# Altium schematic symbol library Schlib1.SchLib: 25 symbols
Pins are listed as number, name and electrical type; pins without a type are passive.

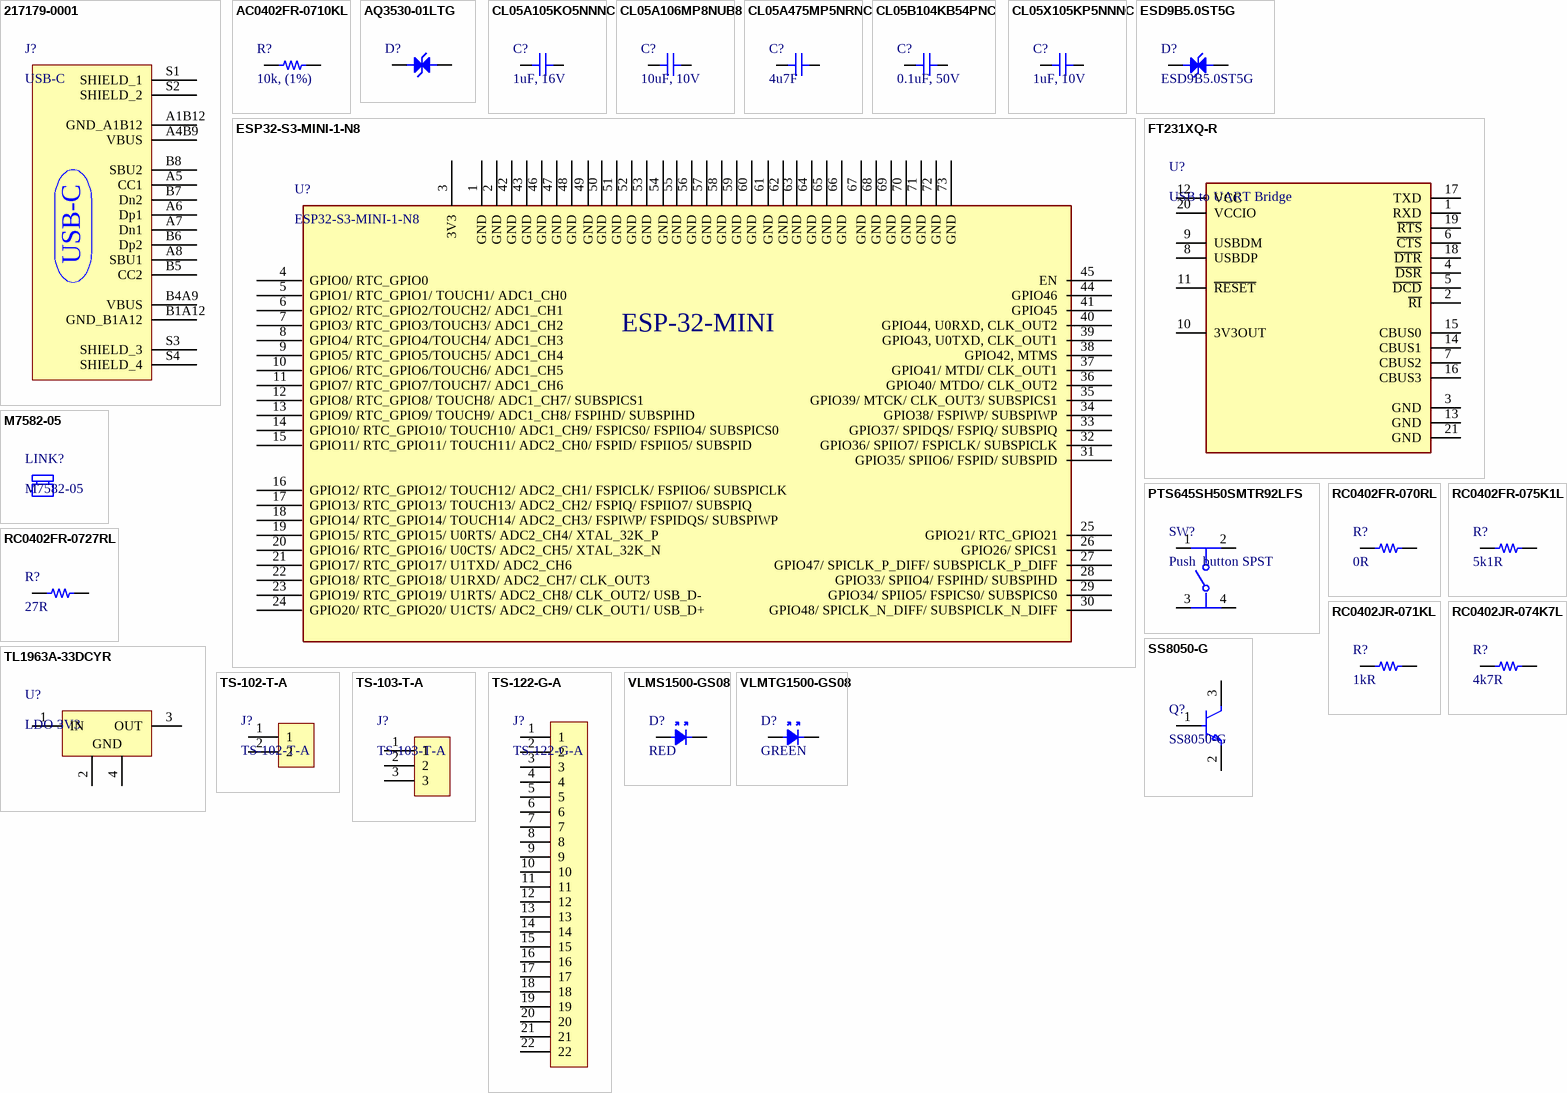
[diagram p0: symbols 217179-0001 to VLMTG1500-GS08]

## 217179-0001
designator J?, comment USB-C
CONN RCP USB2.0 TYP C 24P SMD RA; Manufacturer: Molex; Manufacturer Part Number: 217179-0001; Current Rating: 1.25A; Gender: Receptacle; Number of Contacts: 16; Voltage Rating: 30V; Supplier: Digikey; Supplier Part Number: 900-2171790001CT-ND; RoHS: No; Category: Connectors; Stock: 2736; Pricing: 1=0.79, 10=0.645, 25=0.5948, 50=0.5594, 100=0.5259, 250=0.48484, 500=0.45592 (USD); Contact Material: Nickel,Gold; Min Operating Temperature: -40°C; Max Operating Temperature: 85°C; USB Standard: USB 2.0; Height: 3.36mm; LCSC Part number: C2894899
footprint FP-2171790001-MFG
pins: A1B12 GND_A1B12, A4B9 VBUS, A5 CC1, A6 Dp1, A7 Dn1, A8 SBU1, B1A12 GND_B1A12, B4A9 VBUS, B5 CC2, B6 Dp2, B7 Dn2, B8 SBU2, S1 SHIELD_1, S2 SHIELD_2, S3 SHIELD_3, S4 SHIELD_4

## AC0402FR-0710KL
designator R?, comment 10k, (1%)
SMD Chip Resistor, 10 kOhm, ï¿½ 1%, 62.5 mW, 0402 [1005 Metric], Thick Film, General Purpose; Manufacturer: Yageo; Manufacturer Part Number: AC0402FR-0710KL; Value: 10kR; Power Rating: 62.5mW; Voltage Rating: 50V; Temperature Coefficient: 100ppm/°C; Max Power Dissipation: 63mW; Supplier: Digikey; Supplier Part Number: YAG3436CT-ND; RoHS: Yes; Category: Chip SMD Resistors; Stock: 801477; Pricing: 1=0.1, 10=0.009, 100=0.0082, 1000=0.00714, 2500=0.00612, 5000=0.0051 (USD); Case/Package: 0402; Case Code (Imperial): 0402; Case Code (Metric): 1005; Min Operating Temperature: -55°C; Max Operating Temperature: 155°C; Tolerance: 1%; Packaging: Tape and Reel; Termination: SMD/SMT; Number of Terminations: 2; Features: Moisture Resistant,Automotive AEC-Q200; Series: AC; Length: 0.039inch; Width: 0.02inch; Height: 0.015inch; Lead Free: Lead Free; RoHS Compliant: Yes; ComponentLink1URL: https://datasheet.ciiva.com/12656/pyu-ac-51-rohs-l-2-12656634.pdf?src-supplier=Mouser; ComponentLink1Description: https://datasheet.ciiva.com/12656/pyu-ac-51-rohs-l-2-12656634.pdf?src-supplier=Mouser; LCSC part number: C144807
footprint RESC1005X40X25NL05T10 (Chip Resistor, 2-Leads, Body 1.00x0.50mm, IPC Medium Density)
pins: 1, 2

## AQ3530-01LTG
designator D?  (value not drawn)
AQ3530-01LTG Series - 0.3pF 22kV unidirectional TVS diode, SOD523, RoHS; Manufacturer: Littelfuse; Leakage Current: 100nA; Number of Channels: 1NUMBER; Supplier: Digikey; Supplier Part Number: 18-AQ3530-01LTGCT-ND; Manufacturer Part Number: AQ3530-01LTG; RoHS: Yes; Category: TVS Diodes; Stock: 19074; Pricing: 1=0.4, 10=0.271, 100=0.128, 500=0.1205, 1000=0.113 (USD); Mounting Technology: 8Mount; LCSC Part number: C3706409
pins: 1, 2

## CL05A105KO5NNNC
designator C?, comment 1uF, 16V
16V 1uF X5R ±10% 0402 Multilayer Ceramic Capacitors MLCC - SMD/SMT ROHS; Manufacturer: Samsung; Manufacturer Part Number: CL05A105KO5NNNC; Material: 4241ConductorMaterial; Supplier: Digikey; Supplier Part Number: 1276-1067-1-ND; RoHS: Yes; Category: Ceramic Capacitors; Stock: 1549627; Pricing: 1=0.1, 10=0.027, 100=0.0163, 1000=0.01076, 2500=0.00932, 5000=0.00843 (USD); Mounting Technology: Surface Mount; Case/Package: 0402; Case Code (Metric): 1005; Case Code (Imperial): 0402; Min Operating Temperature: -55°C; Max Operating Temperature: 85°C; Packaging: Tape and Reel; Package Quantity: 1; Voltage Rating: 16V; Series: CL; Value: 1uF; Tolerance: 10%; Dielectric: X5R; Voltage: 16V; Construction: Flat; Voltage Rating (DC): 16V; Length: 1mm; Width: 0.02inch; Height: 0.5mm; Thickness: 0.022inch; Depth: 0.5mm; Radiation Hardening: No; RoHS Compliant: Yes; ComponentLink1URL: https://datasheet.ciiva.com/16207/cl05a105ko5nnnc-16207571.pdf?src-supplier=Future+Electronics; ComponentLink1Description: https://datasheet.ciiva.com/16207/cl05a105ko5nnnc-16207571.pdf?src-supplier=Future+Electronics; ComponentLink2URL: https://datasheet.ciiva.com/15195/getdatasheetpartid-355272-15195629.pdf?src-supplier=Verical; ComponentLink2Description: https://datasheet.ciiva.com/15195/getdatasheetpartid-355272-15195629.pdf?src-supplier=Verical; LCSC part number: C29266
footprint FP-CL599-IPC_B
pins: 1, 2

## CL05A106MP8NUB8
designator C?, comment 10uF, 10V
Multilayer Ceramic Capacitor, 10 uF, 10 V, ± 20%, X5R, 0402 [1005 Metric]; Manufacturer: Samsung; Manufacturer Part Number: CL05A106MP8NUB8; Material: 4241ConductorMaterial; Supplier: Digikey; Supplier Part Number: 1276-6830-1-ND; RoHS: Yes; Category: Ceramic Capacitors; Stock: 179131; Pricing: 1=0.31, 10=0.188, 100=0.1251, 1000=0.09037, 2500=0.08106 (USD); Mounting Technology: Surface Mount; Case/Package: 0402; Case Code (Metric): 1005; Case Code (Imperial): 0402; Min Operating Temperature: -55°C; Max Operating Temperature: 85°C; Packaging: Cut Tape; Value: 10uF; Voltage Rating: 10V; Tolerance: 20%; Series: CL; Length: 0.039inch; Width: 0.02inch; Height: 550um; Thickness: 0.035inch; RoHS Compliant: Yes; ComponentLink1URL: http://www.samsungsem.com/kr/support/product-search/mlcc/CL05A106MP8NUB8.jsp?src-supplier=Digikey; ComponentLink1Description: http://www.samsungsem.com/kr/support/product-search/mlcc/CL05A106MP8NUB8.jsp?src-supplier=Digikey; ComponentLink2URL: https://datasheet.octopart.com/CL05A106MP8NUB8-Samsung-Electro-Mechanics-datasheet-136460857.pdf?src-supplier=Future+Electronics; ComponentLink2Description: https://datasheet.octopart.com/CL05A106MP8NUB8-Samsung-Electro-Mechanics-datasheet-136460857.pdf?src-supplier=Future+Electronics; LCSC Part number: CL05A106MP8NUB8
footprint FP-CL599-IPC_B
pins: 1, 2

## CL05A475MP5NRNC
designator C?, comment 4u7F
Multilayer Ceramic Capacitor, 4.7 uF, 10 V, ï¿½ 20%, X5R, 0402 [1005 Metric]; Manufacturer: Samsung; Manufacturer Part Number: CL05A475MP5NRNC; Material: 4241ConductorMaterial; Value: 4.7uF; Voltage Rating: 10V; Supplier: Digikey; Supplier Part Number: 1276-1482-1-ND; RoHS: Yes; Category: Ceramic Capacitors; Stock: 1513638; Pricing: 1=0.1, 10=0.04, 100=0.0245, 1000=0.01648, 2500=0.01439, 5000=0.01308 (USD); Mounting Technology: Surface Mount; Case/Package: 0402; Case Code (Metric): 1005; Case Code (Imperial): 0402; Min Operating Temperature: -55°C; Max Operating Temperature: 85°C; Packaging: Cut Tape; Tolerance: 20%; Dielectric: X5R; Series: CL; Height: 550um; Lead Free: Lead Free; RoHS Compliant: Yes; ComponentLink1URL: https://datasheet.ciiva.com/25786/cl05a475mp5nrnc-25786963.pdf?src-supplier=Digikey; ComponentLink1Description: https://datasheet.ciiva.com/25786/cl05a475mp5nrnc-25786963.pdf?src-supplier=Digikey; ComponentLink2URL: https://datasheet.ciiva.com/16437/cl05b104kq5nnnc-16437353.pdf?src-supplier=Future+Electronics; ComponentLink2Description: https://datasheet.ciiva.com/16437/cl05b104kq5nnnc-16437353.pdf?src-supplier=Future+Electronics; LCSC Part number: C23733
footprint FP-CL599-IPC_B
pins: 1, 2

## CL05B104KB54PNC
designator C?, comment 0.1uF, 50V
50V 100nF X7R ±10% 0402 Multilayer Ceramic Capacitors MLCC - SMD/SMT ROHS; Manufacturer: Samsung; Manufacturer Part Number: CL05B104KB54PNC; Material: 4241ConductorMaterial; Supplier: Digikey; Supplier Part Number: 1276-CL05B104KB54PNCCT-ND; RoHS: Yes; Category: Ceramic Capacitors; Stock: 1445745; Pricing: 1=0.1, 10=0.03, 100=0.018, 1000=0.01195, 2500=0.01037, 5000=0.00939 (USD); Case/Package: 343Case; Min Operating Temperature: -55°C; Max Operating Temperature: 125°C; Tolerance: 10%; Voltage Rating: 50V; Value: 100nF; Height: 550um; RoHS Compliant: Yes; LCSC part number: C307331
footprint FP-CL599-IPC_B
pins: 1, 2

## CL05X105KP5NNNC
designator C?, comment 1uF, 10V
10V 1uF X6S ±10% 0402 Multilayer Ceramic Capacitors MLCC - SMD/SMT ROHS; Manufacturer: Samsung; Manufacturer Part Number: CL05X105KP5NNNC; Supplier: Digikey; Supplier Part Number: 1276-6805-1-ND; RoHS: Yes; Category: Ceramic Capacitors; Stock: 2140064; Pricing: 1=0.1, 10=0.042, 50=0.0284, 100=0.0244, 500=0.0175, 1000=0.01536, 2500=0.0131, 5000=0.01173 (USD); ComponentLink1URL: http://www.samsungsem.com/global/front/downloadcms.do?path=%2F%2Fglobal%2F%2Fsupport%2F%2Flibrary%2F%2Fproduct-catalog%2F%2F__icsFiles%2F%2Fafieldfile%2F%2F2014%2F%2F11%2F%2F13&fileName=MLCC.pdf&src-supplier=Avnet; ComponentLink1Description: http://www.samsungsem.com/global/front/downloadcms.do?path=%2F%2Fglobal%2F%2Fsupport%2F%2Flibrary%2F%2Fproduct-catalog%2F%2F__icsFiles%2F%2Fafieldfile%2F%2F2014%2F%2F11%2F%2F13&fileName=MLCC.pdf&src-supplier=Avnet; ComponentLink2URL: https://datasheet.octopart.com/CL05X105KP5NNNC-Samsung-Electro-Mechanics-datasheet-115064993.pdf?src-supplier=Future+Electronics; ComponentLink2Description: https://datasheet.octopart.com/CL05X105KP5NNNC-Samsung-Electro-Mechanics-datasheet-115064993.pdf?src-supplier=Future+Electronics; ComponentLink3URL: http://www.samsungsem.com/kr/support/library/product-catalog/mlcc.jsp?src-supplier=Digikey; ComponentLink3Description: http://www.samsungsem.com/kr/support/library/product-catalog/mlcc.jsp?src-supplier=Digikey; ComponentLink4URL: http://www.samsungsem.com/kr/support/product-search/mlcc/CL05X105KP5NNNC.jsp?src-supplier=Digikey; ComponentLink4Description: http://www.samsungsem.com/kr/support/product-search/mlcc/CL05X105KP5NNNC.jsp?src-supplier=Digikey; LCSC Part number: C2991800
footprint FP-CL599-IPC_B
pins: 1, 2

## ESD9B5.0ST5G
designator D?
ESD Suppressor TVS Single Bi-Dir ±18kV@Air Gap/±18kV@Contact Disc 2-Pin SOD-923 T/R; Manufacturer: ON Semiconductor; Direction: Bidirectional; Number of Bidirectional Channels: 1; Reverse Standoff Voltage: 5V; Min Breakdown Voltage: 5.8V; Power Line Protection: No; Peak Pulse Current: 1A; Diode Type: ZENER; Value: 15pF; Clamping Voltage: 12.5V; Max Power Dissipation: 300mW; Leakage Current: 1uA; Test Current: 1mA; ESD Protection: Yes; Max Breakdown Voltage: 7.8V; Supplier: Digikey; Supplier Part Number: ESD9B5.0ST5GOSCT-ND; Manufacturer Part Number: ESD9B5.0ST5G; RoHS: Yes; Category: ESD and Circuit Protection ICs; Stock: 1217500; Pricing: 1=0.1, 10=0.071, 100=0.033, 500=0.031, 1000=0.029 (USD); Case/Package: SOD-923-2; Pins: 2; Min Operating Temperature: -55°C; Max Operating Temperature: 150°C; Packaging: Tape and Reel; Number of Lines: 1; Series: Automotive, AEC-Q101; Reverse Breakdown Voltage: 5.8V; Number of Channels: 1; Number of Elements: 1; Package Quantity: 1; Operating Supply Voltage: 5V; Max Surge Current: 1A; Breakdown Voltage: 5.8V; Polarity: Bidirectional; Termination: SMD/SMT; Working Voltage: 5V; Peak Pulse Power: 300mW; Max Reverse Leakage Current: 1uA; Clamping Voltage-Max: 12.5V; Length: 0.8mm; Width: 0.65mm; Height: 0.4mm; Depth: 0.6mm; Radiation Hardening: No; Lead Free: Lead Free; Halogen Free: Halogen Free; RoHS Compliant: Yes; Reach SVHC Compliant: No; ComponentLink1URL: https://datasheet.ciiva.com/1219/1596367-1219274.pdf?src-supplier=Newark; ComponentLink1Description: https://datasheet.ciiva.com/1219/1596367-1219274.pdf?src-supplier=Newark; LCSC Part Number: C316040
footprint ONSC-SOD-923-2-514AB-01_V (SOD, 2-Leads, Body 0.8x0.6mm)
pins: 1, 2

## ESP32-S3-MINI-1-N8
designator U?
SMD module, ESP32-S3FN8, 8 MB SPI flash, PCB antenna; Manufacturer: Espressif Systems; Supplier: Digikey; Supplier Part Number: 1965-ESP32-S3-MINI-1-N8CT-ND; Manufacturer Part Number: ESP32-S3-MINI-1-N8; RoHS: No; Category: LDO; Stock: 3722; Pricing: 1=3.1 (USD); ComponentLink1URL: https://datasheet.octopart.com/ESP32-S3-MINI-1-N8-Espressif-Systems-datasheet-165560562.pdf?src-supplier=TME; ComponentLink1Description: https://datasheet.octopart.com/ESP32-S3-MINI-1-N8-Espressif-Systems-datasheet-165560562.pdf?src-supplier=TME; LCSC Part number: C2913206
footprint XCVR_ESP32-S3-MINI-1-N8
pins: 1 GND, 2 GND, 3 3V3, 4 GPIO0/ RTC_GPIO0, 5 GPIO1/ RTC_GPIO1/ TOUCH1/ ADC1_CH0, 6 GPIO2/ RTC_GPIO2/TOUCH2/ ADC1_CH1, 7 GPIO3/ RTC_GPIO3/TOUCH3/ ADC1_CH2, 8 GPIO4/ RTC_GPIO4/TOUCH4/ ADC1_CH3, 9 GPIO5/ RTC_GPIO5/TOUCH5/ ADC1_CH4, 10 GPIO6/ RTC_GPIO6/TOUCH6/ ADC1_CH5, 11 GPIO7/ RTC_GPIO7/TOUCH7/ ADC1_CH6, 12 GPIO8/ RTC_GPIO8/ TOUCH8/ ADC1_CH7/ SUBSPICS1, 13 GPIO9/ RTC_GPIO9/ TOUCH9/ ADC1_CH8/ FSPIHD/ SUBSPIHD, 14 GPIO10/ RTC_GPIO10/ TOUCH10/ ADC1_CH9/ FSPICS0/ FSPIIO4/ SUBSPICS0, 15 GPIO11/ RTC_GPIO11/ TOUCH11/ ADC2_CH0/ FSPID/ FSPIIO5/ SUBSPID, 16 GPIO12/ RTC_GPIO12/ TOUCH12/ ADC2_CH1/ FSPICLK/ FSPIIO6/ SUBSPICLK, 17 GPIO13/ RTC_GPIO13/ TOUCH13/ ADC2_CH2/ FSPIQ/ FSPIIO7/ SUBSPIQ, 18 GPIO14/ RTC_GPIO14/ TOUCH14/ ADC2_CH3/ FSPIWP/ FSPIDQS/ SUBSPIWP, 19 GPIO15/ RTC_GPIO15/ U0RTS/ ADC2_CH4/ XTAL_32K_P, 20 GPIO16/ RTC_GPIO16/ U0CTS/ ADC2_CH5/ XTAL_32K_N, 21 GPIO17/ RTC_GPIO17/ U1TXD/ ADC2_CH6, 22 GPIO18/ RTC_GPIO18/ U1RXD/ ADC2_CH7/ CLK_OUT3, 23 GPIO19/ RTC_GPIO19/ U1RTS/ ADC2_CH8/ CLK_OUT2/ USB_D-, 24 GPIO20/ RTC_GPIO20/ U1CTS/ ADC2_CH9/ CLK_OUT1/ USB_D+, 25 GPIO21/ RTC_GPIO21, 26 GPIO26/ SPICS1, 27 GPIO47/ SPICLK_P_DIFF/ SUBSPICLK_P_DIFF, 28 GPIO33/ SPIIO4/ FSPIHD/ SUBSPIHD, 29 GPIO34/ SPIIO5/ FSPICS0/ SUBSPICS0, 30 GPIO48/ SPICLK_N_DIFF/ SUBSPICLK_N_DIFF, 31 GPIO35/ SPIIO6/ FSPID/ SUBSPID, 32 GPIO36/ SPIIO7/ FSPICLK/ SUBSPICLK, 33 GPIO37/ SPIDQS/ FSPIQ/ SUBSPIQ, 34 GPIO38/ FSPIWP/ SUBSPIWP, 35 GPIO39/ MTCK/ CLK_OUT3/ SUBSPICS1, 36 GPIO40/ MTDO/ CLK_OUT2, 37 GPIO41/ MTDI/ CLK_OUT1, 38 GPIO42, MTMS, 39 GPIO43, U0TXD, CLK_OUT1, 40 GPIO44, U0RXD, CLK_OUT2, 41 GPIO45, 42 GND, 43 GND, 44 GPIO46, 45 EN, 46 GND, 47 GND, 48 GND, 49 GND, 50 GND, 51 GND, 52 GND, 53 GND, 54 GND, 55 GND, 56 GND, 57 GND, 58 GND, 59 GND, 60 GND, 61 GND, 62 GND, 63 GND, 64 GND, 65 GND, 66 GND, 67 GND, 68 GND, 69 GND, 70 GND, 71 GND, 72 GND, 73 GND
text: ESP-32-MINI

## FT231XQ-R
designator U?, comment USB to UART Bridge
USB to Full Handshake UART Interface QFN20 Reel (not offered in your region); Manufacturer: FTDI; Manufacturer Part Number: FT231XQ-R; Supplier: Digikey; Supplier Part Number: 768-1128-1-ND; RoHS: Yes; Category: Interface ICs; Stock: 45518; Pricing: 1=2.34, 25=2.27, 100=2.2, 250=2, 500=1.82002, 1000=1.7625 (USD); Height: 800um; Lead Free: 5697LeadFree; ComponentLink1URL: https://datasheet.ciiva.com/4787/ds-ft231x-13571-4787570.pdf?src-supplier=Mouser; ComponentLink1Description: https://datasheet.ciiva.com/4787/ds-ft231x-13571-4787570.pdf?src-supplier=Mouser; ComponentLink2URL: https://datasheet.ciiva.com/30475/0900766b811020d3-30475405.pdf?src-supplier=Rs; ComponentLink2Description: https://datasheet.ciiva.com/30475/0900766b811020d3-30475405.pdf?src-supplier=Rs; ComponentLink3URL: https://datasheet.ciiva.com/1787/ds-ft231x-1787312.pdf?src-supplier=Digikey; ComponentLink3Description: https://datasheet.ciiva.com/1787/ds-ft231x-1787312.pdf?src-supplier=Digikey; ComponentLink4URL: https://datasheet.ciiva.com/1787/ft-x-series-1787313.pdf?src-supplier=Digikey; ComponentLink4Description: https://datasheet.ciiva.com/1787/ft-x-series-1787313.pdf?src-supplier=Digikey; ComponentLink5URL: https://datasheet.ciiva.com/1787/ft-x-series-1787314.pdf?src-supplier=Digikey; ComponentLink5Description: https://datasheet.ciiva.com/1787/ft-x-series-1787314.pdf?src-supplier=Digikey; LCSC Part number: C132159
footprint FP-QFN-20-IPC_B
pins: 1 RXD, 2 ~{RI}, 3 GND, 4 ~{DSR}, 5 ~{DCD}, 6 ~{CTS}, 7 CBUS2, 8 USBDP, 9 USBDM, 10 3V3OUT, 11 ~{RESET}, 12 VCC, 13 GND, 14 CBUS1, 15 CBUS0, 16 CBUS3, 17 TXD, 18 ~{DTR}, 19 ~{RTS}, 20 VCCIO, 21 GND

## M7582-05
designator LINK?  (mechanical)
2.54mm (0.1") Pitch Open Top Jumper Socket, single use, gold, Black; Manufacturer: Harwin; Max Current Rating: 1A; Contact Resistance: 20mR; Number of Positions: 2; Insulation Resistance: 5GR; Supplier: Digikey; Supplier Part Number: 952-2881-ND; Manufacturer Part Number: M7582-05; RoHS: Yes; Category: Headers and Wire Housings; Stock: 29899; Pricing: 1=0.15, 10=0.124, 25=0.114, 50=0.107, 100=0.1007, 250=0.0928, 500=0.08728, 1000=0.08207, 2500=0.07566 (USD); Contact Material: Bronze; Contact Plating: Gold; Color: Black; Material: Nickel; Plating: Gold; Housing Color: Black; Housing Material: PBT; Min Operating Temperature: -55°C; Max Operating Temperature: 105°C; Package Quantity: 5000; Packaging: Bulk; Series: M75; Number of Rows: 1; Contact Gender: Female; Current Rating: 1A; Number of Contacts: 2; Orientation: Straight; Length: 5mm; Height: 0.236inch; Depth: 2.4mm; Pitch: 2.54mm; Radiation Hardening: No; RoHS Compliant: Yes; Flammability Rating: UL94 V-0; ComponentLink1URL: https://datasheet.ciiva.com/15174/getdatasheetpartid-412516-15174987.pdf?src-supplier=Verical; ComponentLink1Description: https://datasheet.ciiva.com/15174/getdatasheetpartid-412516-15174987.pdf?src-supplier=Verical; LCSC Part number: C3715643

## PTS645SH50SMTR92LFS
designator SW?, comment Push  button SPST
6mm 5mm Round Button 50mA Standing paste 6mm SPST 200gf 12V SMD,6x6mm Tactile Switches ROHS; Manufacturer: ITT C&K; Manufacturer Part Number: PTS645SH50SMTR92LFS; Contact Resistance: 100mR; Number of Positions: 2NUMBER; Supplier: Digikey; Supplier Part Number: CKN9085CT-ND; RoHS: Yes; Category: Tactile Switches; Stock: 26399; Pricing: 1=0.4, 10=0.325, 25=0.2992, 100=0.2639, 250=0.24264, 500=0.22758 (USD); Contact Current Rating: 50mA; Lead Free: 5697LeadFree; ComponentLink1URL: https://datasheet.ciiva.com/29903/getdatasheetpartid-773702-29903807.pdf?src-supplier=Verical; ComponentLink1Description: https://datasheet.ciiva.com/29903/getdatasheetpartid-773702-29903807.pdf?src-supplier=Verical; ComponentLink2URL: https://datasheet.ciiva.com/14920/pts645-14920741.pdf?src-supplier=Digikey; ComponentLink2Description: https://datasheet.ciiva.com/14920/pts645-14920741.pdf?src-supplier=Digikey; ComponentLink3URL: https://datasheet.ciiva.com/22637/1707731-22637356.pdf?src-supplier=Element14; ComponentLink3Description: https://datasheet.ciiva.com/22637/1707731-22637356.pdf?src-supplier=Element14; LCSC Part number: C221869
footprint FP-PTS645SH50SMTR92LFS-MFG
pins: 1, 2, 3, 4

## RC0402FR-070RL
designator R?, comment 0R
62.5mW Thick Film Resistors 50V ±5% 0Ω 0402 Chip Resistor - Surface Mount ROHS; Manufacturer: Yageo; Manufacturer Part Number: RC0402FR-070RL; Tolerance: 1%; Temperature Coefficient: 200ppm/°C; Max Power Dissipation: 63mW; Supplier: Digikey; Supplier Part Number: 311-0.0LRCT-ND; RoHS: Yes; Category: Chip SMD Resistors; Stock: 1505938; Pricing: 1=0.1, 10=0.002 (USD); Mounting Technology: Surface Mount; Case/Package: 0402; Contact Plating: Tin,Matte; Case Code (Imperial): 0402; Case Code (Metric): 1005; Min Operating Temperature: -55°C; Max Operating Temperature: 155°C; Value: 0R; Power Rating: 62.5mW; Packaging: Tape and Reel; Voltage Rating: 50V; Termination: SMD/SMT; Features: Moisture Resistant; Series: RC; Number of Terminations: 2; Length: 1mm; Width: 0.5mm; Height: 0.35mm; Lead Free: 5697LeadFree; RoHS Compliant: Yes; LCSC Part number: C60485
footprint RESC1005X40X25NL05T10 (Chip Resistor, 2-Leads, Body 1.00x0.50mm, IPC Medium Density)
pins: 1, 2

## RC0402FR-075K1L
designator R?, comment 5k1R
RES 5.1K OHM 1% 1/16W 0402; Manufacturer: Yageo; Manufacturer Part Number: RC0402FR-075K1L; Power Rating: 63mW; Voltage Rating: 50V; Value: 5.1kR; Temperature Coefficient: 100ppm/°C; Parameter 1: C105872; Supplier: Digikey; Supplier Part Number: 311-5.10KLRCT-ND; RoHS: Yes; Category: Chip SMD Resistors; Stock: 229144; Pricing: 1=0.1, 10=0.008, 100=0.0066, 1000=0.0051, 2500=0.00459, 5000=0.00408 (USD); Case/Package: 0402; Case Code (Metric): 1005; Case Code (Imperial): 0402; Min Operating Temperature: -55°C; Max Operating Temperature: 155°C; Tolerance: 1%; Packaging: Tape and Reel; Package Quantity: 1; Resistor Type: Thick Film; Number of Terminations: 2; Termination: SMD/SMT; Max Power Dissipation: 63mW; Features: Moisture Resistant; Series: RC; Resistance Tolerance: 1%; Technology: THICK FILM; Voltage Rating (DC): 50V; Working Voltage: 50V; Construction: Rectangular; Length: 1mm; Width: 0.02inch; Height: 0.016inch; Depth: 0.5mm; RoHS Compliant: Yes; Reach SVHC Compliant: Unknown; Lead Free: 5697LeadFree; Military Standard: Not
footprint RESC1005X40X25NL05T10 (Chip Resistor, 2-Leads, Body 1.00x0.50mm, IPC Medium Density)
pins: 1, 2

## RC0402FR-0727RL
designator R?, comment 27R
62.5mW 27Ω 50V ±1% ±100ppm/℃ Thick Film Resistors 0402 Chip Resistor - Surface Mount ROHS; Manufacturer: Yageo; Manufacturer Part Number: RC0402FR-0727RL; Temperature Coefficient: 100ppm/°C; Max Power Dissipation: 63mW; Supplier: Digikey; Supplier Part Number: YAG3086CT-ND; RoHS: Yes; Category: Chip SMD Resistors; Stock: 352788; Pricing: 1=0.1, 10=0.007, 100=0.0056, 1000=0.00408, 2500=0.00357 (USD); Case/Package: 0402; Case Code (Imperial): 0402; Case Code (Metric): 1005; Weight: 2.3E-05oz; Min Operating Temperature: -55°C; Max Operating Temperature: 155°C; Value: 27R; Tolerance: 1%; Packaging: Tape and Reel; Power Rating: 62.5mW; Voltage Rating: 50V; Resistor Type: Thick Film; Termination: SMD/SMT; Number of Terminations: 2; Features: Moisture Resistant; Series: RC; Construction: Rectangular; Technology: THICK FILM; Resistance Tolerance: 1%; Voltage Rating (AC): 50V; Length: 1mm; Width: 0.5mm; Height: 0.016inch; Depth: 0.5mm; Military Standard: Not; Lead Free: Lead Free; RoHS Compliant: Yes; Reach SVHC Compliant: Unknown; ComponentLink1URL: https://datasheet.ciiva.com/11808/0900766b80c66297-11808450.pdf?src-supplier=Rs; ComponentLink1Description: https://datasheet.ciiva.com/11808/0900766b80c66297-11808450.pdf?src-supplier=Rs; ComponentLink2URL: https://datasheet.ciiva.com/17044/pyu-rc0402-51-rohs-l-6-17044345.pdf?src-supplier=Future+Electronics; ComponentLink2Description: https://datasheet.ciiva.com/17044/pyu-rc0402-51-rohs-l-6-17044345.pdf?src-supplier=Future+Electronics; ComponentLink3URL: https://datasheet.ciiva.com/7849/1018594-7849927.pdf?src-supplier=Element14; ComponentLink3Description: https://datasheet.ciiva.com/7849/1018594-7849927.pdf?src-supplier=Element14; ComponentLink4URL: https://datasheet.ciiva.com/7849/1018594-7849926.pdf?src-supplier=Element14; ComponentLink4Description: https://datasheet.ciiva.com/7849/1018594-7849926.pdf?src-supplier=Element14; LCSC Part number: C138021
footprint RESC1005X40X25NL05T10 (Chip Resistor, 2-Leads, Body 1.00x0.50mm, IPC Medium Density)
pins: 1, 2

## RC0402JR-071KL
designator R?, comment 1kR
RES 1K OHM 5% 1/16W 0402; Manufacturer: Yageo; Manufacturer Part Number: RC0402JR-071KL; Voltage Rating: 50V; Power Rating: 62.5mW; Temperature Coefficient: 100ppm/°C; Max Power Dissipation: 63mW; Supplier: Digikey; Supplier Part Number: 311-1.0KJRCT-ND; RoHS: Yes; Category: Chip SMD Resistors; Stock: 11901828; Pricing: 1=0.1, 10=0.008, 50=0.0072, 100=0.0061, 500=0.0056, 1000=0.0051, 5000=0.00408 (USD); Case/Package: 0402; Case Code (Imperial): 0402; Case Code (Metric): 1005; Min Operating Temperature: -55°C; Max Operating Temperature: 155°C; Packaging: Cut Tape; Termination: SMD/SMT; Series: RC; Voltage Rating (AC): 50V; Value: 1kR; Tolerance: 5%; Package Quantity: 1; Resistor Type: Thick Film; Number of Terminations: 2; Features: Moisture Resistant; Resistance Tolerance: 5%; Length: 0.039inch; Width: 0.02inch; Height: 0.016inch; Reach SVHC Compliant: No; Lead Free: 5697LeadFree; RoHS Compliant: Yes; LCSC Part Number: C105637
footprint RESC1005X40X25NL05T10 (Chip Resistor, 2-Leads, Body 1.00x0.50mm, IPC Medium Density)
pins: 1, 2

## RC0402JR-074K7L
designator R?, comment 4k7R
RES 4.7K OHM 5% 1/16W 0402; Manufacturer: Yageo; Manufacturer Part Number: RC0402JR-074K7L; Voltage Rating (AC): 50V; Value: 4.7kR; Power Rating: 62.5mW; Temperature Coefficient: 100ppm/°C; Max Power Dissipation: 63mW; Supplier: Digikey; Supplier Part Number: 311-4.7KJRCT-ND; RoHS: Yes; Category: Chip SMD Resistors; Stock: 17282127; Pricing: 1=0.1, 10=0.007, 50=0.0056, 100=0.0041, 500=0.00356, 1000=0.0025 (USD); Case/Package: 0402; Case Code (Imperial): 0402; Case Code (Metric): 1005; Min Operating Temperature: -55°C; Max Operating Temperature: 155°C; Voltage Rating: 50V; Tolerance: 5%; Packaging: Tape and Reel; Package Quantity: 1; Termination: SMD/SMT; Resistor Type: Thick Film; Number of Terminations: 2; Features: Moisture Resistant; Series: RC; Resistance Tolerance: 5%; Length: 0.039inch; Width: 0.02inch; Height: 0.016inch; Lead Free: Lead Free; Reach SVHC Compliant: No; RoHS Compliant: Yes; LCSC Part number: C105870
footprint RESC1005X40X25NL05T10 (Chip Resistor, 2-Leads, Body 1.00x0.50mm, IPC Medium Density)
pins: 1, 2

## SS8050-G
designator Q?
TRANS NPN 25V 1.5A SOT-23-3; Manufacturer: Comchip; Max Power Dissipation: 300mW; Transition Frequency: 100MHz; Collector-emitter Voltage-Max: 400mV; Collector Base Voltage (VCBO): 40V; Collector Emitter Saturation Voltage: 500mV; Emitter Base Voltage (VEBO): 5V; hFE Min: 200; Number of Elements: 1; Supplier: Digikey; Supplier Part Number: 641-1790-1-ND; Manufacturer Part Number: SS8050-G; RoHS: Yes; Category: Transistors; Stock: 104442; Pricing: 1=0.24, 10=0.148, 100=0.0921, 500=0.06754, 1000=0.05958 (USD); Mounting Technology: Surface Mount; Case/Package: TO-236-3; Max Operating Temperature: 150°C; Packaging: Cut Tape; Max Collector Current: 1.5A; Collector Emitter Breakdown Voltage: 25V; Max Breakdown Voltage: 25V; Series: -; Power Dissipation: 300mW; Height: 1.15mm; RoHS Compliant: Yes; ComponentLink1URL: http://www.comchiptech.com/admin/files/product/SS8050-G RevA181526.pdf?src-supplier=Digikey; ComponentLink1Description: http://www.comchiptech.com/admin/files/product/SS8050-G RevA181526.pdf?src-supplier=Digikey; LCSC Part number: C164886
footprint FP-SS8050-G-IPC_B
pins: 1 B, 2 E, 3 C

## TL1963A-33DCYR
designator U?, comment LDO 3V3
IC REG LINEAR 3.3V 1.5A SOT223-4; Manufacturer: Texas Instruments; Manufacturer Part Number: TL1963A-33DCYR; Supplier: Digikey; Supplier Part Number: 296-24897-1-ND; RoHS: Yes; Category: Voltage Regulators - Linear; Stock: 6096; Pricing: 1=2.77, 10=2.069, 25=1.8936, 100=1.7, 250=1.60772, 500=1.55212, 1000=1.50634 (USD); Thickness: 1.6mm; Lead Free: 5697LeadFree; ComponentLink1URL: https://datasheet.ciiva.com/2046/-2046068.pdf?src-supplier=Digikey; ComponentLink1Description: https://datasheet.ciiva.com/2046/-2046068.pdf?src-supplier=Digikey; LCSC Part number: C181262
footprint DCY0004A_N (SOT223, 4-Leads, Body 6.7x3.7mm, Pitch 2.3mm, IPC Medium Density)
pins: 1 IN (power) "Input. Power is supplied to the device through the IN pin. A bypass capacitor is required on this pin if the device is more than six inches away from the main input filter capacitor. In general, the output impedance of a (See Datasheet)", 2 GND (power) "Ground", 3 OUT (power) "Output. The output supplies power to the load. A minimum output capacitor (ceramic) of 10 uF is required to prevent oscillations. Larger output capacitors are required for applications with large transient loads to limit (See Datasheet)", 4 GND (power) "Ground"

## TS-102-T-A
designator J?
CONN HEADER VERT 2POS 2.54MM; Manufacturer: Samtec; Gender: 29Gender; Supplier: Digikey; Supplier Part Number: SAM1112-02-ND; Manufacturer Part Number: TS-102-T-A; RoHS: Yes; Category: Headers and Wire Housings; Stock: 6682; Pricing: 1=0.71, 10=0.575, 100=0.4687, 500=0.4063, 1000=0.38208, 5000=0.3313, 10000=0.32266 (USD); Width: 2.54mm; Lead Free: 5697LeadFree; ComponentLink1URL: https://datasheet.ciiva.com/410/tx-1xx-x-x-mkt1-410198.pdf?src-supplier=Digikey; ComponentLink1Description: https://datasheet.ciiva.com/410/tx-1xx-x-x-mkt1-410198.pdf?src-supplier=Digikey; LCSC Part number: C3337950
footprint HDR_1x2_2.54MM
pins: 1, 2

## TS-103-T-A
designator J?
CONN HEADER VERT 3POS 2.54MM; Manufacturer: Samtec; Supplier: Digikey; Supplier Part Number: SAM1112-03-ND; Manufacturer Part Number: TS-103-T-A; RoHS: Yes; Category: Connectors; Stock: 9448; Pricing: 1=0.9, 10=0.734, 100=0.5984, 500=0.51874, 1000=0.48782, 5000=0.42299, 10000=0.42149 (USD); ComponentLink1URL: https://datasheet.ciiva.com/410/tx-1xx-x-x-mkt1-410199.pdf?src-supplier=Digikey; ComponentLink1Description: https://datasheet.ciiva.com/410/tx-1xx-x-x-mkt1-410199.pdf?src-supplier=Digikey; LCSC Part number: C6338633
footprint HDR_1x3_2.54MM
pins: 1, 2, 3

## TS-122-G-A
designator J?
22 Position Header Connector Post Gold; Manufacturer: Samtec; Supplier: Mouser; Supplier Part Number: 200-TS122GA; Manufacturer Part Number: TS-122-G-A; RoHS: Yes; Category: Connectors; Stock: 20; Pricing: 1=5.24, 10=5.24, 50=5.24, 100=4.19, 1000=3.03, 10000=2.45 (USD); ComponentLink1URL: https://datasheet.ciiva.com/410/tx-1xx-x-x-mkt1-410311.pdf?src-supplier=Digikey; ComponentLink1Description: https://datasheet.ciiva.com/410/tx-1xx-x-x-mkt1-410311.pdf?src-supplier=Digikey; LCSC Part number: C7125323
footprint HDR_1x22_2.54MM
pins: 1, 2, 3, 4, 5, 6, 7, 8, 9, 10, 11, 12, 13, 14, 15, 16, 17, 18, 19, 20, 21, 22

## VLMS1500-GS08
designator D?, comment RED
LED RED 0402 SMD; Manufacturer: Vishay; Manufacturer Part Number: VLMS1500-GS08; Viewing Angle: 130°; Forward Current: 30mA; Forward Voltage: 2V; Luminous Intensity: 54mcd; Dominant Wavelength: 631nm; Test Current: 20mA; Lens Style: Flat,Rectangular,Square; Number of LEDs: 1; Power Rating: 75mW; Lens Size: 0.5mm; Supplier: Digikey; Supplier Part Number: VLMS1500-GS08CT-ND; RoHS: Yes; Category: LEDs; Stock: 72955; Pricing: 1=0.33, 10=0.189, 100=0.1166, 500=0.08838, 1000=0.07977 (USD); Mounting Technology: Surface Mount; Case/Package: 0402; Pins: 2; Color: Red; Case Code (Metric): 1005; Case Code (Imperial): 0402; Min Operating Temperature: -30°C; Max Operating Temperature: 85°C; Package Quantity: 9000; Packaging: Tape and Reel; Illumination Color: Red; Wavelength: 631nm; Series: CHipLED; Length: 1mm; Width: 0.5mm; Height: 0.55mm; Radiation Hardening: No; Lead Free: Lead Free; RoHS Compliant: Yes; Reach SVHC Compliant: Unknown; ComponentLink1URL: http://components.arrow.com/part/dataview/56357384S461524N5680?src-supplier=Arrow+Electronics; ComponentLink1Description: http://components.arrow.com/part/dataview/56357384S461524N5680?src-supplier=Arrow+Electronics; ComponentLink2URL: http://www.mouser.com/ds/2/427/vlmo1500-244705.pdf?src-supplier=Mouser; ComponentLink2Description: http://www.mouser.com/ds/2/427/vlmo1500-244705.pdf?src-supplier=Mouser; ComponentLink3URL: http://www.farnell.com/datasheets/1809983.pdf?src-supplier=Farnell; ComponentLink3Description: http://www.farnell.com/datasheets/1809983.pdf?src-supplier=Farnell; ComponentLink4URL: http://www.alliedelec.com/m/d/cfc385e1097fc985ee9a50a3551ac188.pdf?src-supplier=Allied+Electronics; ComponentLink4Description: http://www.alliedelec.com/m/d/cfc385e1097fc985ee9a50a3551ac188.pdf?src-supplier=Allied+Electronics; ComponentLink5URL: https://datasheet.octopart.com/VLMS1500-GS08-Vishay-datasheet-62332426.pdf?src-supplier=Newark; ComponentLink5Description: https://datasheet.octopart.com/VLMS1500-GS08-Vishay-datasheet-62332426.pdf?src-supplier=Newark; ComponentLink6URL: http://www.vishay.com/docs/82554/vlmo1500.pdf?src-supplier=Avnet; ComponentLink6Description: http://www.vishay.com/docs/82554/vlmo1500.pdf?src-supplier=Avnet; ComponentLink7URL: https://datasheet.octopart.com/VLMS1500-GS08-Vishay-datasheet-21227148.pdf?src-supplier=Future+Electronics; ComponentLink7Description: https://datasheet.octopart.com/VLMS1500-GS08-Vishay-datasheet-21227148.pdf?src-supplier=Future+Electronics; ComponentLink8URL: http://www.farnell.com/datasheets/2050839.pdf?src-supplier=Newark; ComponentLink8Description: http://www.farnell.com/datasheets/2050839.pdf?src-supplier=Newark; ComponentLink9URL: http://www.farnell.com/datasheets/1809983.pdf?src-supplier=Element14; ComponentLink9Description: http://www.farnell.com/datasheets/1809983.pdf?src-supplier=Element14; ComponentLink10URL: https://datasheet.octopart.com/VLMS1500-GS08-Vishay-datasheet-33014519.pdf?src-supplier=Element14; ComponentLink10Description: https://datasheet.octopart.com/VLMS1500-GS08-Vishay-datasheet-33014519.pdf?src-supplier=Element14; ComponentLink11URL: http://www.farnell.com/datasheets/1809983.pdf?src-supplier=Newark; ComponentLink11Description: http://www.farnell.com/datasheets/1809983.pdf?src-supplier=Newark; ComponentLink12URL: http://datasheet.octopart.com/VLMS1500-GS08-Vishay-datasheet-21227148.pdf?src-supplier=Avnet; ComponentLink12Description: http://datasheet.octopart.com/VLMS1500-GS08-Vishay-datasheet-21227148.pdf?src-supplier=Avnet; ComponentLink13URL: http://datasheet.octopart.com/VLMS1500-GS08-Vishay-datasheet-21227148.pdf?src-supplier=LCSC; ComponentLink13Description: http://datasheet.octopart.com/VLMS1500-GS08-Vishay-datasheet-21227148.pdf?src-supplier=LCSC; ComponentLink14URL: http://datasheet.octopart.com/VLMS1500-GS08-Vishay-datasheet-21227148.pdf?src-supplier=Quest; ComponentLink14Description: http://datasheet.octopart.com/VLMS1500-GS08-Vishay-datasheet-21227148.pdf?src-supplier=Quest; ComponentLink15URL: http://datasheet.octopart.com/VLMS1500-GS08-Vishay-datasheet-21227148.pdf?src-supplier=NAC+Semi; ComponentLink15Description: http://datasheet.octopart.com/VLMS1500-GS08-Vishay-datasheet-21227148.pdf?src-supplier=NAC+Semi; LCSC Part Number: C511370
footprint LED-RED-0402
pins: 1, 2

## VLMTG1500-GS08
designator D?, comment GREEN
LED GREEN 0402 SMD; Manufacturer: Vishay; Manufacturer Part Number: VLMTG1500-GS08; Viewing Angle: 65°; Supplier: Digikey; Supplier Part Number: 751-VLMTG1500-GS08DKR-ND; RoHS: Yes; Category: LEDs; Stock: 2572; Pricing: 1=0.43, 10=0.249, 100=0.1568, 500=0.12086, 1000=0.10985 (USD); RoHS Compliant: Yes; LCSC Part Number: C20346084
footprint LED-GREEN-0402
pins: 1, 2